# EAGLE library part DF17(2.0)-40DP-0.5V(57) (library mbed-HDK-Connector)
40 Position Header Connector
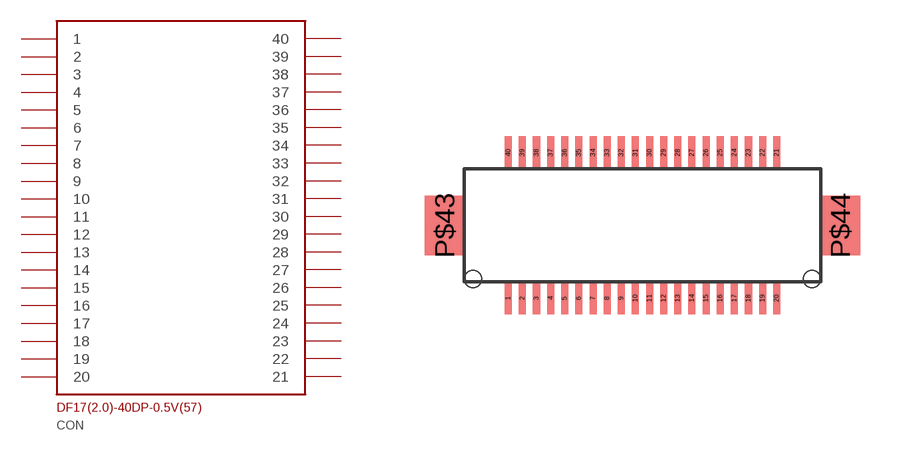
[diagram p9: symbol with the pads of DF17(2.0)-40DP-0.5V(57); footprint DF17(2.0)-40DP-0.5V(57)]

Designator prefix CON

## DF17(2.0)-40DP-0.5V(57) (MF: Hirose Electric Co Ltd; MFN: DF17(2.0)-40DP-0.5V(57); OC-DIGIKEY: H11130CT-ND; OC-MOUSER: 798-DF172040DP05V57; OC-NEWARK: 69W0563)  [DF17(2.0)-40DP-0.5V(57)]
1  1
2  2
3  3
4  4
5  5
6  6
7  7
8  8
9  9
10  10
11  11
12  12
13  13
14  14
15  15
16  16
17  17
18  18
19  19
20  20
21  21
22  22
23  23
24  24
25  25
26  26
27  27
28  28
29  29
30  30
31  31
32  32
33  33
34  34
35  35
36  36
37  37
38  38
39  39
40  40

## Footprint DF17(2.0)-40DP-0.5V(57) (pad centres in mm)
smd 0.25 x 1.15: 1 2.02,-0.54; 2 2.52,-0.54; 3 3.02,-0.54; 4 3.52,-0.54; 5 4.02,-0.54; 6 4.52,-0.54; 7 5.02,-0.54; 8 5.52,-0.54; 9 6.02,-0.54; 10 6.52,-0.54; 11 7.02,-0.54; 12 7.52,-0.54; 13 8.02,-0.54; 14 8.52,-0.54; 15 9.02,-0.54; 16 9.52,-0.54; 17 10.02,-0.54; 18 10.52,-0.54; 19 11.02,-0.54; 20 11.52,-0.54; 21 11.52,4.61; 22 11.02,4.61; 23 10.52,4.61; 24 10.02,4.61; 25 9.52,4.61; 26 9.02,4.61; 27 8.52,4.61; 28 8.02,4.61; 29 7.52,4.61; 30 7.02,4.61; 31 6.52,4.61; 32 6.02,4.61; 33 5.52,4.61; 34 5.02,4.61; 35 4.52,4.61; 36 4.02,4.61; 37 3.52,4.61; 38 3.02,4.61; 39 2.52,4.61; 40 2.02,4.61
smd 1.4 x 2.1: P$43 -0.23,2.035; P$44 13.77,2.035
hole 0.6 at 12.77,0.135
hole 0.6 at 0.77,0.135